# EAGLE library part ORBITTY_CARRIER (library auv)
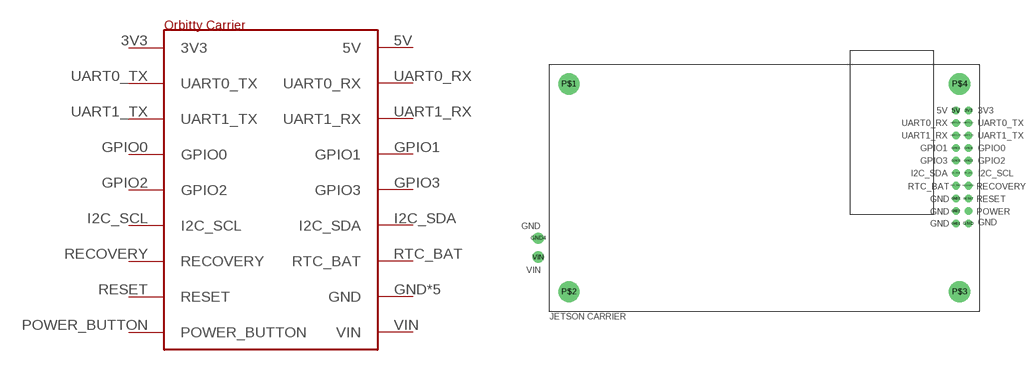
[diagram p8: symbol with the pads of ORBITTY_CARRIER; footprint ORBITTY_CARRIER]

Designator prefix -

## ORBITTY_CARRIER  [ORBITTY_CARRIER]
3V3  3V3
5V  5V
GND  GND
GND1  GND
GND2  GND
GND3  GND
GND4  GND
GPIO0  GPIO0
GPIO1  GPIO1
GPIO2  GPIO2
GPIO3  GPIO3
I2C_SCL  I2C_SCL
I2C_SDA  I2C_SDA
POWER_BUTTON  POWER_BUTTON
RECOVERY  RECOVERY
RESET  RESET
RTC_BAT  RTC_BAT
UART0_RX  UART0_RX
UART0_TX  UART0_TX
UART1_RX  UART1_RX
UART1_TX  UART1_TX
VIN  VIN

## Footprint ORBITTY_CARRIER (pad centres in mm)
drill 1.016: 3V3 41.275,15.672; 5V 38.735,15.672; GND 41.275,-7.188; GND1 38.735,-7.188; GND2 38.735,-4.648; GND3 38.735,-2.108; GPIO0 41.275,8.052; GPIO1 38.735,8.052; GPIO2 41.275,5.512; GPIO3 38.735,5.512; I2C_SCL 41.275,2.972; I2C_SDA 38.735,2.972; POWER_BUTTON 41.275,-4.648; RECOVERY 41.275,0.432; RESET 41.275,-2.108; RTC_BAT 38.735,0.432; UART0_RX 38.735,13.132; UART0_TX 41.275,13.132; UART1_RX 38.735,10.592; UART1_TX 41.275,10.592
drill 1.524: GND4 -45.72,-10.16; VIN -45.72,-13.97
drill 3.3: P$1 -39.497,21.006; P$2 -39.497,-21.006; P$3 39.497,-21.006; P$4 39.497,21.006